# EAGLE library part ARDUINO_UNO_FLIPPED (library UBCSolar)
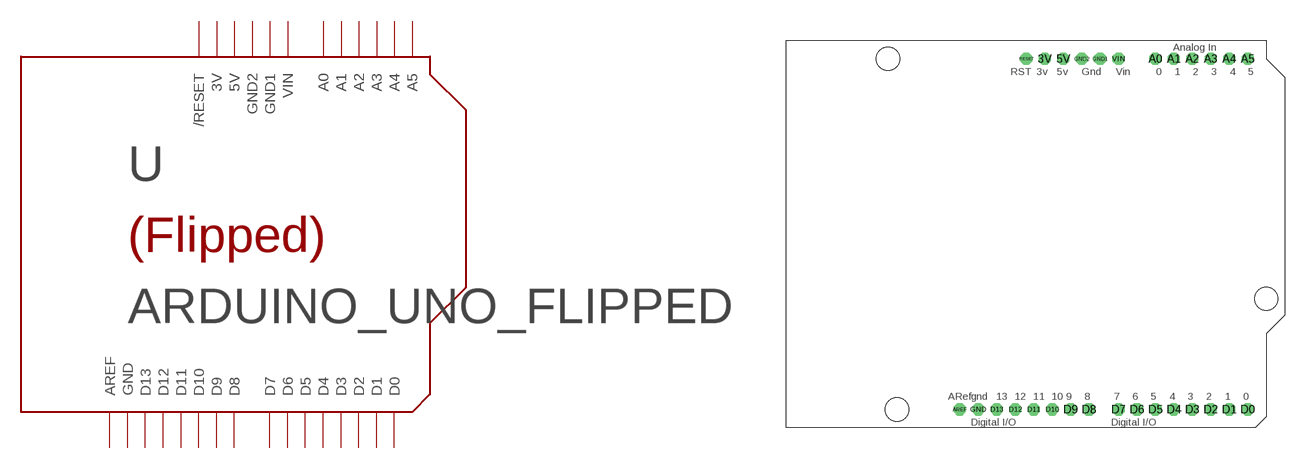
[diagram p4: symbol with the pads of ARDUINO_UNO_FLIPPED; footprint ARDUINO_UNO_FLIPPED]

Designator prefix -

## ARDUINO_UNO_FLIPPED  [ARDUINO_UNO_FLIPPED]
3V  3V  pwr
5V  5V  pwr
A0  A0
A1  A1
A2  A2
A3  A3
A4  A4
A5  A5
AREF  AREF
D0  D0
D1  D1
D2  D2
D3  D3
D4  D4
D5  D5
D6  D6
D7  D7
D8  D8
D9  D9
D10  D10
D11  D11
D12  D12
D13  D13
GND  GND  pwr
GND1  GND1  pwr
GND2  GND2  pwr
RESET  /RESET
VIN  VIN  pwr

## Footprint ARDUINO_UNO_FLIPPED (pad centres in mm)
drill 1 pad 1.676 octagon: 3V 6.35,22.86; 5V 8.89,22.86; A0 21.59,22.86; A1 24.13,22.86; A2 26.67,22.86; A3 29.21,22.86; A4 31.75,22.86; A5 34.29,22.86; AREF -5.334,-25.4; D0 34.29,-25.4; D1 31.75,-25.4; D2 29.21,-25.4; D3 26.67,-25.4; D4 24.13,-25.4; D5 21.59,-25.4; D6 19.05,-25.4; D7 16.51,-25.4; D8 12.446,-25.4; D9 9.906,-25.4; D10 7.366,-25.4; D11 4.826,-25.4; D12 2.286,-25.4; D13 -0.254,-25.4; GND -2.794,-25.4; GND1 13.97,22.86; GND2 11.43,22.86; RESET 3.81,22.86; VIN 16.51,22.86
hole 3.2 at -13.97,-25.4
hole 3.2 at 36.83,-10.16
hole 3.2 at -15.24,22.86